# Altium footprint library PCB - CONNECTOR - HARWIN - HARWIN M20-7831245.PcbLib: 1 footprints
Each footprint in its own frame and in the unit in brackets; x right, y up, seen from the top. Pads: shape width x height; smd on the part's side, far side on the other; paste and mask are expansions set on the pad; w line width, h text height; cw(c..) or ccw(c..) is an arc to the next point about the centre after c.
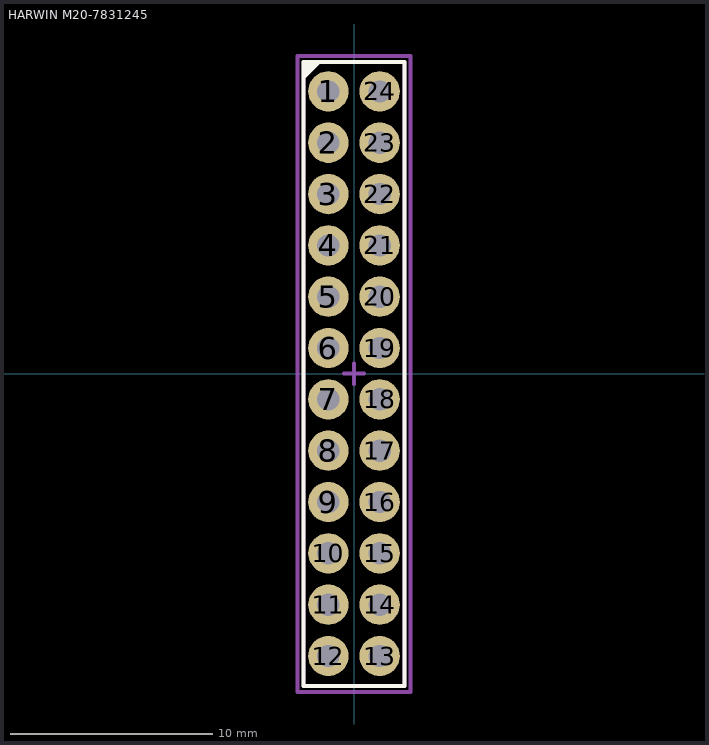
[diagram p0: the footprint, top view; thin cyan lines are the x and y axes]

## HARWIN M20-7831245 [mm] "2.54mm DIL PC TAIL PIN HEADER ASSEMBLY"
height 5
pads (24):
  round 2 hole 1.1: 1(-1.27,13.97) 2(-1.27,11.43) 3(-1.27,8.89) 4(-1.27,6.35) 5(-1.27,3.81) 6(-1.27,1.27) 7(-1.27,-1.27) 8(-1.27,-3.81) 9(-1.27,-6.35) 10(-1.27,-8.89) 11(-1.27,-11.43) 12(-1.27,-13.97) 13(1.27,-13.97) 14(1.27,-11.43) 15(1.27,-8.89) 16(1.27,-6.35) 17(1.27,-3.81) 18(1.27,-1.27) 19(1.27,1.27) 20(1.27,3.81) 21(1.27,6.35) 22(1.27,8.89) 23(1.27,11.43) 24(1.27,13.97)
Top Overlay:
  region: -2.5,15.43 -2.5,14.53 -1.6,15.43
  lines w0.2: -2.5,-15.46 -2.5,15.43 2.5,15.43 2.5,-15.46 -2.5,-15.46
Top Assembly:
  lines w0.2: -0.5,0 0.5,0 ; 0,-0.5 0,0.5 ; -2.5,-15.46 -2.5,15.43 2.5,15.43 2.5,-15.46 -2.5,-15.46
Top Courtyard (Mech15):
  lines w0.2: -2.8,-15.76 -2.8,15.73 2.8,15.73 2.8,-15.76 -2.8,-15.76
3D body "M20-7831242.step": height 8.5, standoff -3, extent -2.52,-15.44 2.52,15.44